# Altium footprint library LS05-23BxxDR3.PcbLib: 1 footprints
Each footprint in its own frame and in the unit in brackets; x right, y up, seen from the top. Pads: shape width x height; smd on the part's side, far side on the other; paste and mask are expansions set on the pad; w line width, h text height; cw(c..) or ccw(c..) is an arc to the next point about the centre after c.
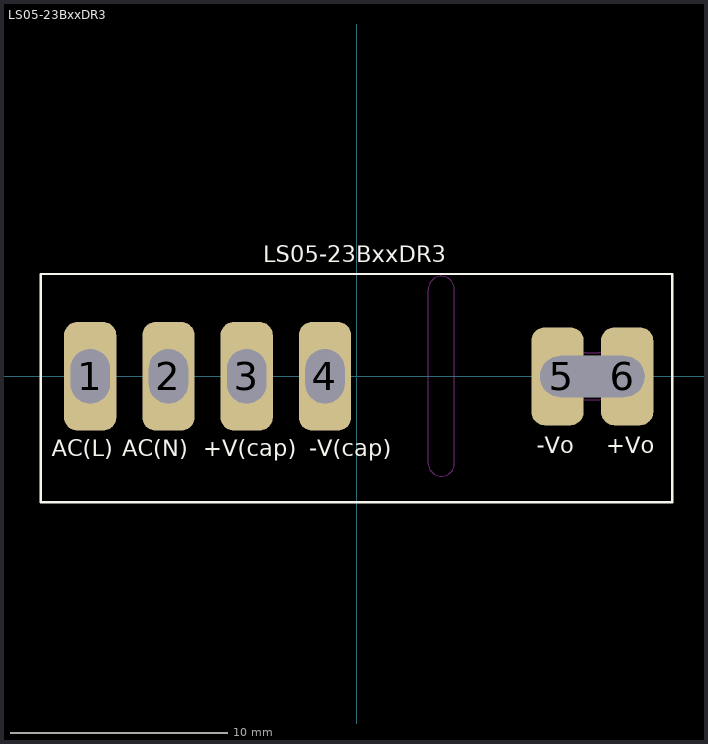
[diagram p0: the footprint, top view; thin cyan lines are the x and y axes]

## LS05-23BxxDR3 [mm]
pads (7):
  round 0 hole 1.9 slot 4.8 at 0 deg: 0(10.85,-0.004)
  rrect50% 2.4x5 hole 1.8 slot 2.5 at 90 deg: 1(-12.25,0.004) 2(-8.65,0.004) 3(-5.05,0.004) 4(-1.45,0.004)
  rrect50% 2.4x4.5 hole 1.8 copper offset -0.2,0: 5(9.45,0.004)
  rrect50% 2.4x4.5 hole 1.8 copper offset 0.2,0: 6(12.25,0.004)
Top Overlay:
  lines w0.1: -14.52,-5.786 14.52,-5.786 14.52,4.714 -14.52,4.714 -14.52,-5.786
  text "LS05-23BxxDR3" at -4.284,5.247 h0.76
  text "AC(L)" at -14.023,-3.671 h0.76
  text "AC(N)" at -10.77,-3.671 h0.76
  text "-V(cap)" at -2.181,-3.671 h0.76
  text "+V(cap)" at -7.052,-3.671 h0.76
  text "-Vo" at 8.299,-3.526 h0.76
  text "+Vo" at 11.497,-3.526 h0.76
Keep-Out Layer:
  lines w0.025: 3.302,-3.996 ccw(c3.902,-3.996) 4.502,-3.996 4.502,4.004 ccw(c3.902,4.004) 3.302,4.004 3.302,-3.996 ; 10.25,-0.766 ccw(c10.55,-0.766) 10.55,-1.066 11.15,-1.066 ccw(c11.15,-0.766) 11.45,-0.766 11.45,0.785 ccw(c11.15,0.785) 11.15,1.085 10.55,1.085 ccw(c10.55,0.785) 10.25,0.785 10.25,-0.766